# Altium footprint library RF-Bluetooth.PcbLib: 1 footprints
Each footprint in its own frame and in the unit in brackets; x right, y up, seen from the top. Pads: shape width x height; smd on the part's side, far side on the other; paste and mask are expansions set on the pad; w line width, h text height; cw(c..) or ccw(c..) is an arc to the next point about the centre after c.
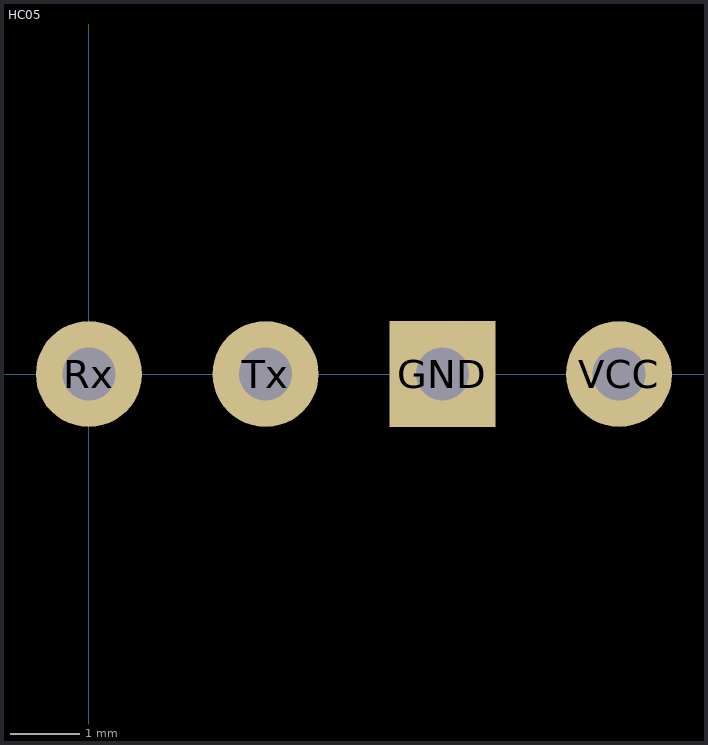
[diagram p0: the footprint, top view; thin cyan lines are the x and y axes]

## HC05 [mil]
pads (4):
  rect 60x60 hole 30: GND(200,0)
  round 60 hole 30: Rx(0,0) Tx(100,0) VCC(300,0)
3D body "HC-05.SLDPRT": height 218.5, standoff -39.37, extent -162.96,-275 466.96,1401.51